# EAGLE library part F09HPS (library AMP-5745781-4)
SUB-D
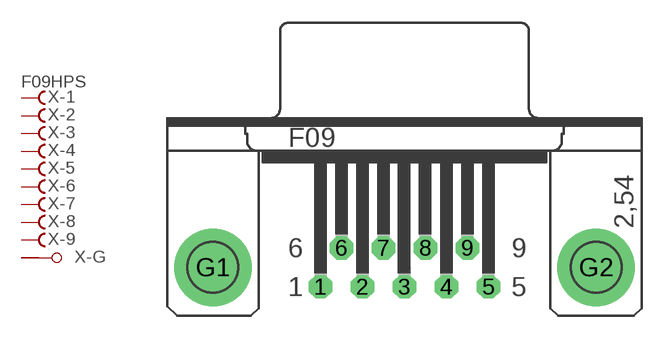
[diagram p16: symbol with the pads of F09HP; footprint F09HP]

Designator prefix X; gates -2=F -3=F -4=F -5=F -6=F -7=F -8=F -9=F -G=GND -1=FV

## F09HPS  [F09HP]
1  -1:F  pas
2  -2:F  pas
3  -3:F  pas
4  -4:F  pas
5  -5:F  pas
6  -6:F  pas
7  -7:F  pas
8  -8:F  pas
9  -9:F  pas
G1  -G:G1  pas
G2  -G:G2  pas

## Footprint F09HP (pad centres in mm)
SUB-D
drill 1.016 octagon: 1 -5.486,0.66; 2 -2.743,0.66; 3 0,0.66; 4 2.743,0.66; 5 5.486,0.66; 6 -4.115,3.2; 7 -1.372,3.2; 8 1.372,3.2; 9 4.115,3.2
drill 3.302 pad 5.08 round: G1 -12.522,1.93; G2 12.522,1.93